# EAGLE library part SSH-G4-CPU (library mullac)
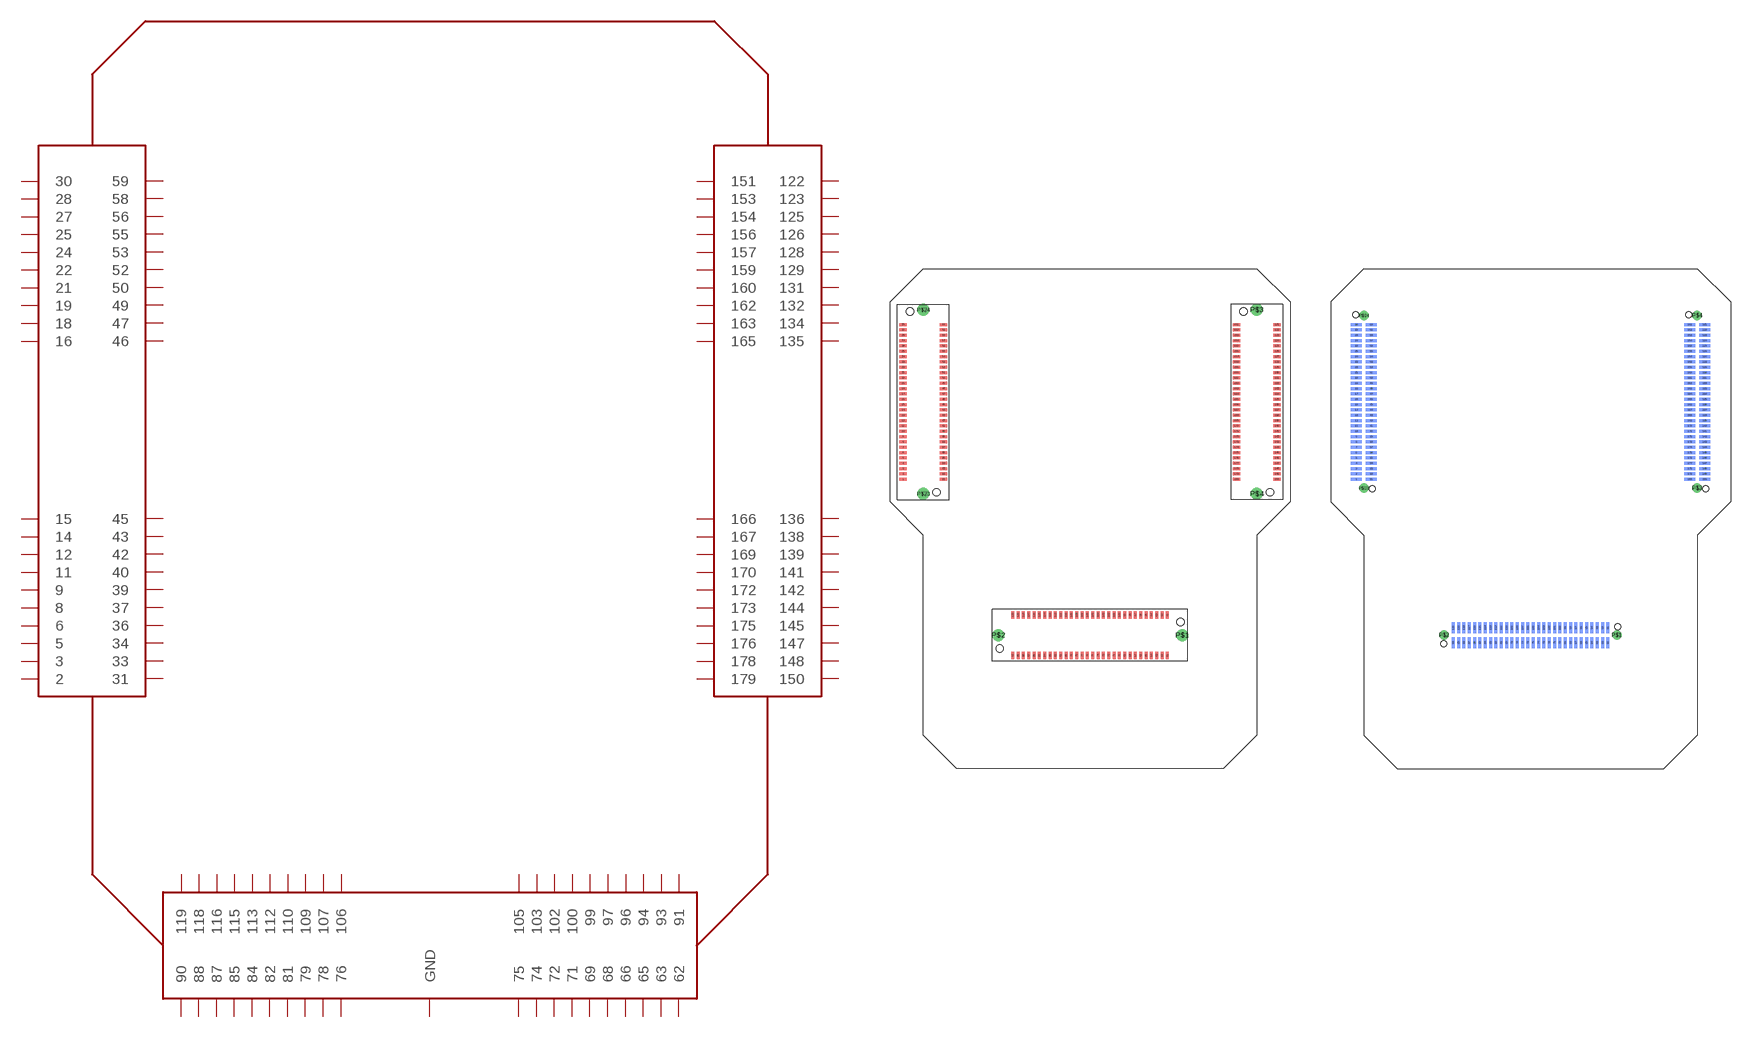
[diagram p13: symbol with the pads of SSH-CPU-DOCK; footprints SSH-CPU-DOCK, SSH-CPU-MODULE]

Designator prefix -

## SSH-G4-CPUDOCK  [SSH-CPU-DOCK]
1  GND
2  2
3  3
4  GND
5  5
6  6
7  GND
8  8
9  9
10  GND
11  11
12  12
13  GND
14  14
15  15
16  16
17  GND
18  18
19  19
20  GND
21  21
22  22
23  GND
24  24
25  25
26  GND
27  27
28  28
29  GND
30  30
31  31
32  GND
33  33
34  34
35  GND
36  36
37  37
38  GND
39  39
40  40
41  GND
42  42
43  43
44  GND
45  45
46  46
47  47
48  GND
49  49
50  50
51  GND
52  52
53  53
54  GND
55  55
56  56
57  GND
58  58
59  59
60  GND
61  GND
62  62
63  63
64  GND
65  65
66  66
67  GND
68  68
69  69
70  GND
71  71
72  72
73  GND
74  74
75  75
76  76
77  GND
78  78
79  79
80  GND
81  81
82  82
83  GND
84  84
85  85
86  GND
87  87
88  88
89  GND
90  90
91  91
92  GND
93  93
94  94
95  GND
96  96
97  97
98  GND
99  99
100  100
101  GND
102  102
103  103
104  GND
105  105
106  106
107  107
108  GND
109  109
110  110
111  GND
112  112
113  113
114  GND
115  115
116  116
117  GND
118  118
119  119
120  GND
121  GND
122  122
123  123
124  GND
125  125
126  126
127  GND
128  128
129  129
130  GND
131  131
132  132
133  GND
134  134
135  135
136  136
137  GND
138  138
139  139
140  GND
141  141
142  142
143  GND
144  144
145  145
146  GND
147  147
148  148
149  GND
150  150
151  151
152  GND
153  153
154  154
155  GND
156  156
157  157
158  GND
159  159
160  160
161  GND
162  162
163  163
164  GND
165  165
166  166
167  167
168  GND
169  169
170  170
171  GND
172  172
173  173
174  GND
175  175
176  176
177  GND
178  178
179  179
180  GND
P$1  GND
P$2  GND
P$3  GND
P$4  GND
P$23  GND
P$24  GND

## SSH-G4-CPUMODULE  [SSH-CPU-MODULE]
Pads as for SSH-CPU-DOCK

## Footprint SSH-CPU-DOCK (pad centres in mm)
smd 1.1 x 0.45: 1 -28.03,-11.6; 2 -28.03,-10.8; 3 -28.03,-10; 4 -28.03,-9.2; 5 -28.03,-8.4; 6 -28.03,-7.6; 7 -28.03,-6.8; 8 -28.03,-6; 9 -28.03,-5.2; 10 -28.03,-4.4; 11 -28.03,-3.6; 12 -28.03,-2.8; 13 -28.03,-2; 14 -28.03,-1.2; 15 -28.03,-0.4; 16 -28.03,0.4; 17 -28.03,1.2; 18 -28.03,2; 19 -28.03,2.8; 20 -28.03,3.6; 21 -28.03,4.4; 22 -28.03,5.2; 23 -28.03,6; 24 -28.03,6.8; 25 -28.03,7.6; 26 -28.03,8.4; 27 -28.03,9.2; 28 -28.03,10; 29 -28.03,10.8; 30 -28.03,11.6; 31 -21.97,-11.6; 32 -21.97,-10.8; 33 -21.97,-10; 34 -21.97,-9.2; 35 -21.97,-8.4; 36 -21.97,-7.6; 37 -21.97,-6.8; 38 -21.97,-6; 39 -21.97,-5.2; 40 -21.97,-4.4; 41 -21.97,-3.6; 42 -21.97,-2.8; 43 -21.97,-2; 44 -21.97,-1.2; 45 -21.97,-0.4; 46 -21.97,0.4; 47 -21.97,1.2; 48 -21.97,2; 49 -21.97,2.8; 50 -21.97,3.6; 51 -21.97,4.4; 52 -21.97,5.2; 53 -21.97,6; 54 -21.97,6.8; 55 -21.97,7.6; 56 -21.97,8.4; 57 -21.97,9.2; 58 -21.97,10; 59 -21.97,10.8; 60 -21.97,11.6; 121 28.03,11.6; 122 28.03,10.8; 123 28.03,10; 124 28.03,9.2; 125 28.03,8.4; 126 28.03,7.6; 127 28.03,6.8; 128 28.03,6; 129 28.03,5.2; 130 28.03,4.4; 131 28.03,3.6; 132 28.03,2.8; 133 28.03,2; 134 28.03,1.2; 135 28.03,0.4; 136 28.03,-0.4; 137 28.03,-1.2; 138 28.03,-2; 139 28.03,-2.8; 140 28.03,-3.6; 141 28.03,-4.4; 142 28.03,-5.2; 143 28.03,-6; 144 28.03,-6.8; 145 28.03,-7.6; 146 28.03,-8.4; 147 28.03,-9.2; 148 28.03,-10; 149 28.03,-10.8; 150 28.03,-11.6; 151 21.97,11.6; 152 21.97,10.8; 153 21.97,10; 154 21.97,9.2; 155 21.97,8.4; 156 21.97,7.6; 157 21.97,6.8; 158 21.97,6; 159 21.97,5.2; 160 21.97,4.4; 161 21.97,3.6; 162 21.97,2.8; 163 21.97,2; 164 21.97,1.2; 165 21.97,0.4; 166 21.97,-0.4; 167 21.97,-1.2; 168 21.97,-2; 169 21.97,-2.8; 170 21.97,-3.6; 171 21.97,-4.4; 172 21.97,-5.2; 173 21.97,-6; 174 21.97,-6.8; 175 21.97,-7.6; 176 21.97,-8.4; 177 21.97,-9.2; 178 21.97,-10; 179 21.97,-10.8; 180 21.97,-11.6
smd 0.45 x 1.1: 61 11.6,-38.03; 62 10.8,-38.03; 63 10,-38.03; 64 9.2,-38.03; 65 8.4,-38.03; 66 7.6,-38.03; 67 6.8,-38.03; 68 6,-38.03; 69 5.2,-38.03; 70 4.4,-38.03; 71 3.6,-38.03; 72 2.8,-38.03; 73 2,-38.03; 74 1.2,-38.03; 75 0.4,-38.03; 76 -0.4,-38.03; 77 -1.2,-38.03; 78 -2,-38.03; 79 -2.8,-38.03; 80 -3.6,-38.03; 81 -4.4,-38.03; 82 -5.2,-38.03; 83 -6,-38.03; 84 -6.8,-38.03; 85 -7.6,-38.03; 86 -8.4,-38.03; 87 -9.2,-38.03; 88 -10,-38.03; 89 -10.8,-38.03; 90 -11.6,-38.03; 91 11.6,-31.97; 92 10.8,-31.97; 93 10,-31.97; 94 9.2,-31.97; 95 8.4,-31.97; 96 7.6,-31.97; 97 6.8,-31.97; 98 6,-31.97; 99 5.2,-31.97; 100 4.4,-31.97; 101 3.6,-31.97; 102 2.8,-31.97; 103 2,-31.97; 104 1.2,-31.97; 105 0.4,-31.97; 106 -0.4,-31.97; 107 -1.2,-31.97; 108 -2,-31.97; 109 -2.8,-31.97; 110 -3.6,-31.97; 111 -4.4,-31.97; 112 -5.2,-31.97; 113 -6,-31.97; 114 -6.8,-31.97; 115 -7.6,-31.97; 116 -8.4,-31.97; 117 -9.2,-31.97; 118 -10,-31.97; 119 -10.8,-31.97; 120 -11.6,-31.97
drill 1.2 pad 1.35: P$1 13.8,-35; P$2 -13.8,-35; P$3 25,13.8; P$4 25,-13.8; P$23 -25,-13.8; P$24 -25,13.8
hole 1.1 at -23.02,-13.55
hole 1.1 at -26.98,13.55
hole 1.1 at 13.55,-33.02
hole 1.1 at -13.55,-36.98
hole 1.1 at 23.02,13.55
hole 1.1 at 26.98,-13.55

## Footprint SSH-CPU-MODULE (pad centres in mm)
smd 1.65 x 0.45 bottom: 1 -26.115,-11.6; 2 -26.115,-10.8; 3 -26.115,-10; 4 -26.115,-9.2; 5 -26.115,-8.4; 6 -26.115,-7.6; 7 -26.115,-6.8; 8 -26.115,-6; 9 -26.115,-5.2; 10 -26.115,-4.4; 11 -26.115,-3.6; 12 -26.115,-2.8; 13 -26.115,-2; 14 -26.115,-1.2; 15 -26.115,-0.4; 16 -26.115,0.4; 17 -26.115,1.2; 18 -26.115,2; 19 -26.115,2.8; 20 -26.115,3.6; 21 -26.115,4.4; 22 -26.115,5.2; 23 -26.115,6; 24 -26.115,6.8; 25 -26.115,7.6; 26 -26.115,8.4; 27 -26.115,9.2; 28 -26.115,10; 29 -26.115,10.8; 30 -26.115,11.6; 31 -23.885,-11.6; 32 -23.885,-10.8; 33 -23.885,-10; 34 -23.885,-9.2; 35 -23.885,-8.4; 36 -23.885,-7.6; 37 -23.885,-6.8; 38 -23.885,-6; 39 -23.885,-5.2; 40 -23.885,-4.4; 41 -23.885,-3.6; 42 -23.885,-2.8; 43 -23.885,-2; 44 -23.885,-1.2; 45 -23.885,-0.4; 46 -23.885,0.4; 47 -23.885,1.2; 48 -23.885,2; 49 -23.885,2.8; 50 -23.885,3.6; 51 -23.885,4.4; 52 -23.885,5.2; 53 -23.885,6; 54 -23.885,6.8; 55 -23.885,7.6; 56 -23.885,8.4; 57 -23.885,9.2; 58 -23.885,10; 59 -23.885,10.8; 60 -23.885,11.6; 121 26.115,11.6; 122 26.115,10.8; 123 26.115,10; 124 26.115,9.2; 125 26.115,8.4; 126 26.115,7.6; 127 26.115,6.8; 128 26.115,6; 129 26.115,5.2; 130 26.115,4.4; 131 26.115,3.6; 132 26.115,2.8; 133 26.115,2; 134 26.115,1.2; 135 26.115,0.4; 136 26.115,-0.4; 137 26.115,-1.2; 138 26.115,-2; 139 26.115,-2.8; 140 26.115,-3.6; 141 26.115,-4.4; 142 26.115,-5.2; 143 26.115,-6; 144 26.115,-6.8; 145 26.115,-7.6; 146 26.115,-8.4; 147 26.115,-9.2; 148 26.115,-10; 149 26.115,-10.8; 150 26.115,-11.6; 151 23.885,11.6; 152 23.885,10.8; 153 23.885,10; 154 23.885,9.2; 155 23.885,8.4; 156 23.885,7.6; 157 23.885,6.8; 158 23.885,6; 159 23.885,5.2; 160 23.885,4.4; 161 23.885,3.6; 162 23.885,2.8; 163 23.885,2; 164 23.885,1.2; 165 23.885,0.4; 166 23.885,-0.4; 167 23.885,-1.2; 168 23.885,-2; 169 23.885,-2.8; 170 23.885,-3.6; 171 23.885,-4.4; 172 23.885,-5.2; 173 23.885,-6; 174 23.885,-6.8; 175 23.885,-7.6; 176 23.885,-8.4; 177 23.885,-9.2; 178 23.885,-10; 179 23.885,-10.8; 180 23.885,-11.6
smd 0.45 x 1.65 bottom: 61 11.6,-36.115; 62 10.8,-36.115; 63 10,-36.115; 64 9.2,-36.115; 65 8.4,-36.115; 66 7.6,-36.115; 67 6.8,-36.115; 68 6,-36.115; 69 5.2,-36.115; 70 4.4,-36.115; 71 3.6,-36.115; 72 2.8,-36.115; 73 2,-36.115; 74 1.2,-36.115; 75 0.4,-36.115; 76 -0.4,-36.115; 77 -1.2,-36.115; 78 -2,-36.115; 79 -2.8,-36.115; 80 -3.6,-36.115; 81 -4.4,-36.115; 82 -5.2,-36.115; 83 -6,-36.115; 84 -6.8,-36.115; 85 -7.6,-36.115; 86 -8.4,-36.115; 87 -9.2,-36.115; 88 -10,-36.115; 89 -10.8,-36.115; 90 -11.6,-36.115; 91 11.6,-33.885; 92 10.8,-33.885; 93 10,-33.885; 94 9.2,-33.885; 95 8.4,-33.885; 96 7.6,-33.885; 97 6.8,-33.885; 98 6,-33.885; 99 5.2,-33.885; 100 4.4,-33.885; 101 3.6,-33.885; 102 2.8,-33.885; 103 2,-33.885; 104 1.2,-33.885; 105 0.4,-33.885; 106 -0.4,-33.885; 107 -1.2,-33.885; 108 -2,-33.885; 109 -2.8,-33.885; 110 -3.6,-33.885; 111 -4.4,-33.885; 112 -5.2,-33.885; 113 -6,-33.885; 114 -6.8,-33.885; 115 -7.6,-33.885; 116 -8.4,-33.885; 117 -9.2,-33.885; 118 -10,-33.885; 119 -10.8,-33.885; 120 -11.6,-33.885
drill 0.9 pad 1.15: P$1 12.95,-35; P$2 -12.95,-35; P$3 25,-12.95; P$4 25,12.95; P$23 -25,-12.95; P$24 -25,12.95
hole 0.9 at -26.25,13.05
hole 0.9 at -23.75,-13.05
hole 0.9 at -13.05,-36.25
hole 0.9 at 13.05,-33.75
hole 0.9 at 23.75,13.05
hole 0.9 at 26.25,-13.05